# Altium integrated library TI Power Management Battery Management.IntLib: 949 symbols (part 35 of 62)
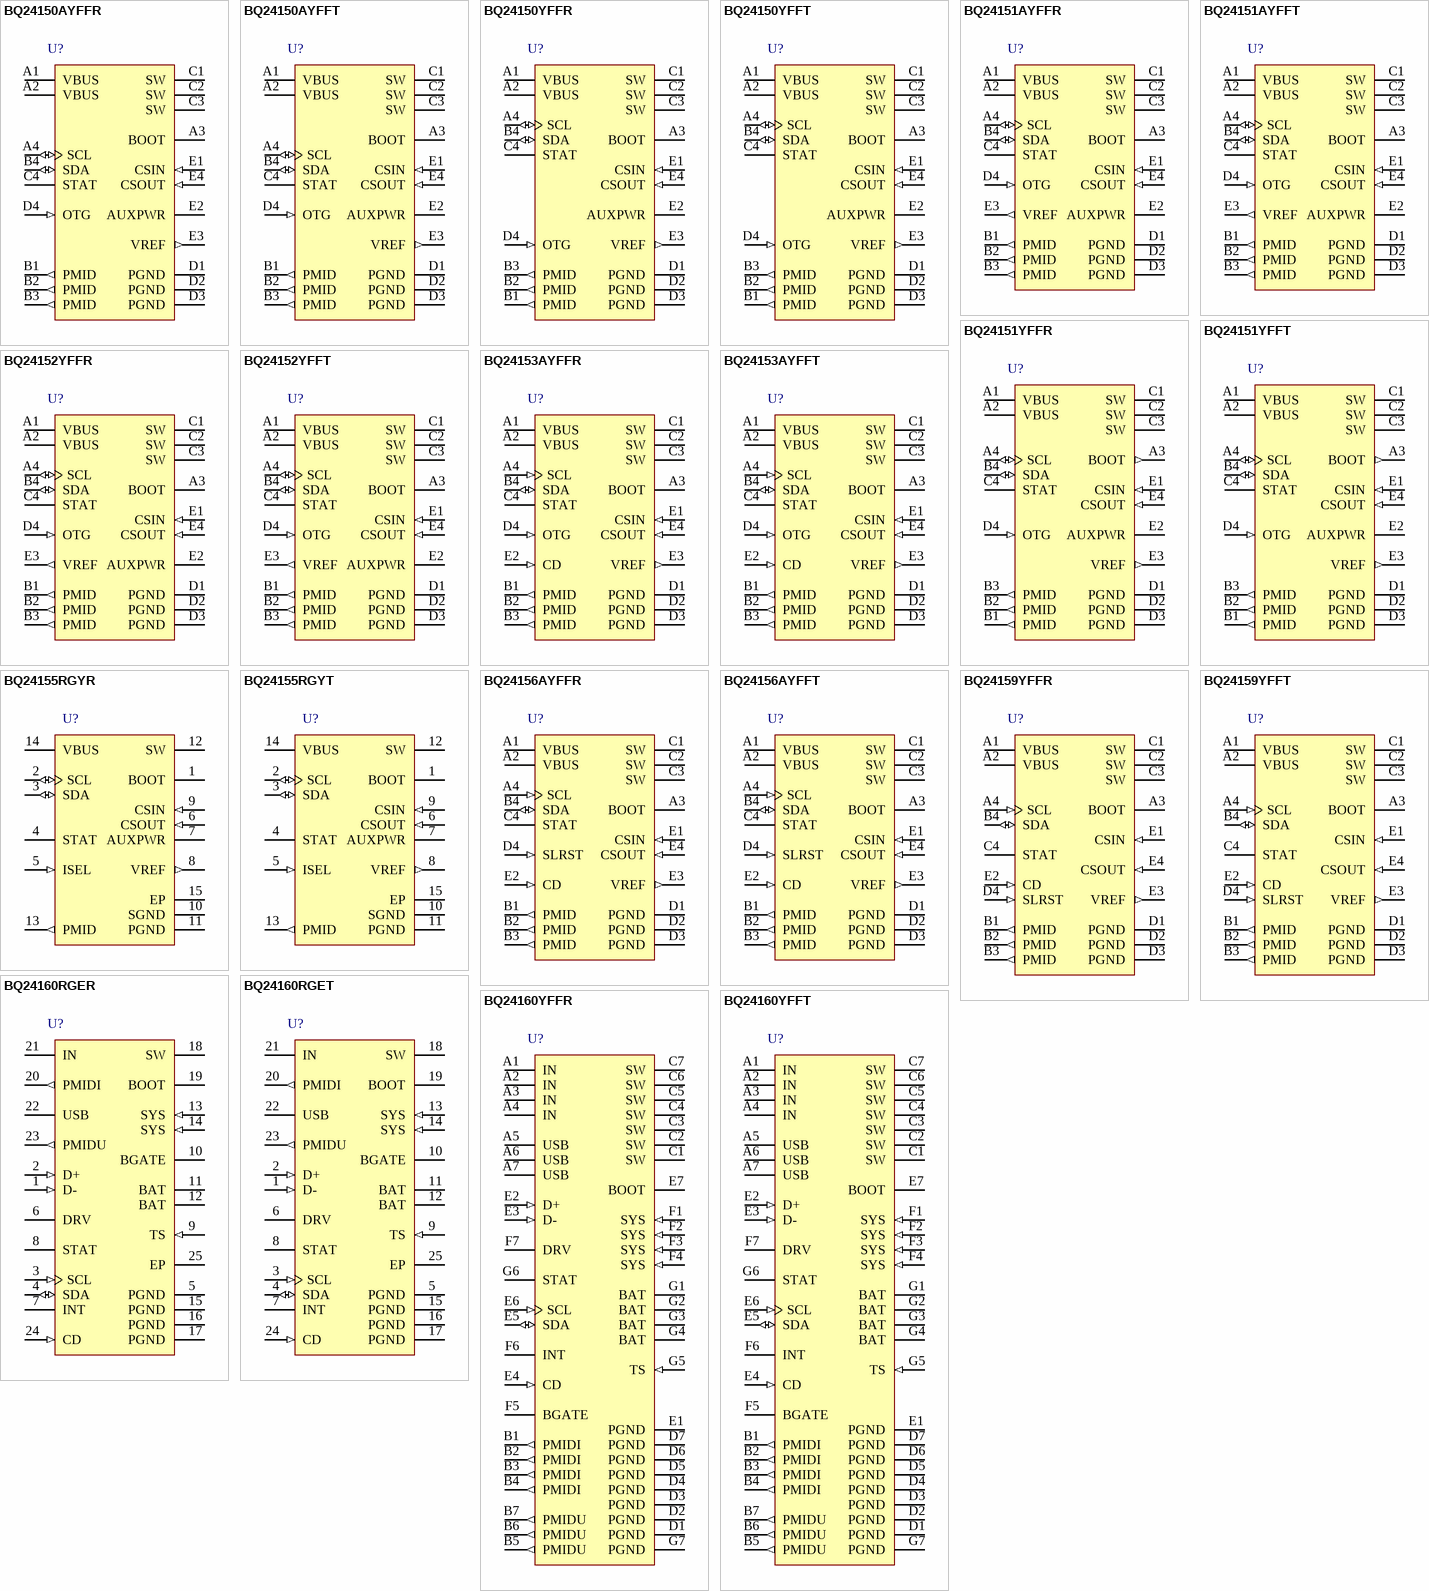
[diagram p68: symbols BQ24150AYFFR to BQ24160YFFT]

## BQ24155RGYT
designator U?
Fully Integrated Switch-Mode One-Cell Li-Ion Charger with Full USB Compliance, 4 V, -40 to 85 degC, 14-pin VQFN (RGY), Green (RoHS & no Sb/Br); PartNumber: BQ24155RGYT; Manufacturer: Texas Instruments; Lead Acid: N; SubFamily: Battery Charge Management; Vin(Min)(V): 4; DatasheetVersion: SLUS942; PackageVersion: revI, Jun-2011; PackageReference: RGY14-2050X2050TP; PackageDescription: 14-Leads Plastic Quad Flatpack No-Lead, 3.5 x 3.5 x 0.9 mm Body, 0.5 mm Pitch; Supplier 1: Digi-Key; Supplier Part Number 1: 296-27228-2-ND; Supplier 2: Digi-Key; Supplier Part Number 2: 296-27228-1-ND; Supplier 3: Digi-Key; Supplier Part Number 3: 296-27228-6-ND; Supplier 4: Farnell; Supplier Part Number 4: 1815716RL; Supplier 5: Farnell; Supplier Part Number 5: 1815716; Supplier 6: Newark; Supplier Part Number 6: 69R4545; Supplier 7: Mouser; Supplier Part Number 7: 595-BQ24155RGYT; Eco-Plan: Green (RoHS & no Sb/Br); Li-Ion: N; Li-Polymer: N; NiCd: N; NiMH: N; Over Voltage Protection: N; Mounting Technology: Surface Mount; Code_JEDEC: MO-241-BA; ComponentLink1Description: Datasheet; ComponentLink1URL: http://www.ti.com/general/docs/lit/getliterature.tsp?genericPartNumber=BQ24155&fileType=pdf
footprint RGY14-2050X2050TP (QFN, 14-Leads, Body 3.5x3.5mm, Pitch 0.5mm, Thermal Pad 2.05x2.05mm, TI Recommended)
pins: 1 BOOT (power) "Bootstrap capacitor connection for the high-side FET gate driver. Connect a 10-nF ceramic capacitor (voltage rating above 10 V) from BOOT pin to SW pin.", 2 SCL (io) "I2C interface clock. Open drain output, connect a 10-kohm pullup resistor to 1.8V rail", 3 SDA (io) "I2C interface data. Open drain output, connect a 10-kohm pullup resistor to 1.8V rail", 4 STAT (hiz) "Charge status pin. Pull low when charge in progress. Open drain for other conditions. During faults, a 128u S pulse is sent out. STAT pin can be disabled by the EN_STAT bit in control register. STAT can be used to drive a (See Datasheet)", 5 ISEL (in) "Input current limiting selection pin. In 32 minutes mode, the ISEL pin is default to be used as the input current limiting selection pin. When ISEL = High, Iin - limit = 500 mA and when ISEL = Low, Iin - limit = 100 mA, see (See Datasheet)", 6 CSOUT (in) "Battery voltage and current sense input. Bypass it with a ceramic capacitor (minimum 0.1 uF) to PGND if there are long inductive leads to battery.", 7 AUXPWR (power) "Auxiliary power supply, connected to the battery pack to provide power in high-impedance mode. Bypass it with a 1-uF ceramic capacitor from this pin to PGND.", 8 VREF (out) "Internal bias regulator voltage. Connect a 1-uF ceramic capacitor from this output to PGND. External load on VREF is not allowed.", 9 CSIN (in) "Charge current-sense input. Battery current is sensed across an external sense resistor. A 0.1-uF ceramic capacitor to PGND is required", 10 SGND (power) "Signal ground", 11 PGND (power) "Power ground", 12 SW (power) "Internal switch to output inductor connection", 13 PMID (out) "Connection point between reverse blocking FET and high-side switching FET. Bypass it with a minimum of 3.3-uF capacitor from PMID to PGND.", 14 VBUS (power) "Charger input voltage. Bypass it with a 1-uF ceramic capacitor from VBUS to PGND", 15 EP (power) "There is an internal electrical connection between the exposed thermal pad and the PGND pin of the device. The thermal pad must be connected to the same potential as the PGND pin on the printed Thermal pad pad - circuit (See Datasheet)"

## BQ24156AYFFR
designator U?
Fully Integrated Switch Mode One-Cell Li-Ion Charger with Full USB Compliance, 4 V, -40 to 85 degC, 20-pin DSBGA (YFF), Green (RoHS & no Sb/Br); PartNumber: BQ24156AYFFR; Manufacturer: Texas Instruments; Lead Acid: N; SubFamily: Battery Charge Management; Vin(Min)(V): 4; DatasheetVersion: SLUSAB0A; PackageVersion: revAF, Mar-2012; PackageReference: YFF20-2140X2000DE; PackageDescription: 20-Ball Die-Size Ball Grid Array, 2.14 x 2 mm Body, 0.4 mm Pitch, Pb-Free; Supplier 1: Digi-Key; Supplier Part Number 1: 296-28035-2-ND; Supplier 2: Digi-Key; Supplier Part Number 2: 296-28035-1-ND; Supplier 3: Digi-Key; Supplier Part Number 3: 296-28035-6-ND; Supplier 4: Mouser; Supplier Part Number 4: 595-BQ24156AYFFR; Eco-Plan: Green (RoHS & no Sb/Br); Li-Ion: N; Li-Polymer: N; NiCd: N; NiMH: N; Over Voltage Protection: N; Mounting Technology: Surface Mount; ComponentLink1Description: Datasheet; ComponentLink1URL: http://www.ti.com/general/docs/lit/getliterature.tsp?genericPartNumber=BQ24156A&fileType=pdf
footprint YFF20-2140X2000DE (BGA, 20-Leads, Body 2.14x2mm, Pitch 0.4mm, Solder Mask Defined Pads)
pins: A1 VBUS (power) "Charger input voltage. Bypass it with a 1-uF ceramic capacitor from VBUS to PGND. It also provides power to the load during boost mode (bq24153A/8 only) .", A2 VBUS (power) "Charger input voltage. Bypass it with a 1-uF ceramic capacitor from VBUS to PGND. It also provides power to the load during boost mode (bq24153A/8 only) .", A3 BOOT (power) "Bootstrap capacitor connection for the high-side FET gate driver. Connect a 10-nF ceramic capacitor (voltage rating >= 10 V) from BOOT pin to SW pin.", A4 SCL (in) "I2C interface clock. Connect a 10-kohm pullup resistor to 1.8V rail (VAUX= VCC_HOST)", B1 PMID (out) "Connection point between reverse blocking FET and high-side switching FET. Bypass it with a minimum of 3.3-uF capacitor from PMID to PGND.", B2 PMID (out) "Connection point between reverse blocking FET and high-side switching FET. Bypass it with a minimum of 3.3-uF capacitor from PMID to PGND.", B3 PMID (out) "Connection point between reverse blocking FET and high-side switching FET. Bypass it with a minimum of 3.3-uF capacitor from PMID to PGND.", B4 SDA (io) "I2C interface data. Connect a 10-kohm pullup resistor to 1.8V rail (VAUX= VCC_HOST)", C1 SW (power) "Internal switch to output inductor connection.", C2 SW (power) "Internal switch to output inductor connection.", C3 SW (power) "Internal switch to output inductor connection.", C4 STAT (hiz) "Charge status pin. Pull low when charge in progress. Open drain for other conditions. During faults, a 128-us pulse is sent out. STAT pin can be disabled by the EN_STAT bit in control register. STAT can be used to drive a (See Datasheet)", D1 PGND (power) "Power ground", D2 PGND (power) "Power ground", D3 PGND (power) "Power ground", D4 SLRST (in) "Safety limit register reset control. When SLRST=0, bq24156A/9 resets all the safety limits (06H) to default values, regardless of the write actions to safety limits registers (06H). When SLRST=1, bq24156A/9 can program the (See Datasheet)", E1 CSIN (in) "Charge current-sense input. Battery current is sensed across an external sense resistor. A 0.1-uF ceramic capacitor to PGND is required.", E2 CD (in) "Charge disable control pin. CD=0, charge is enabled. CD=1, charge is disabled and VBUS pin is high impedance to GND. In 15min mode, Setting CD=1 resets the 15min timer; while in 32s mode, Setting CD=1 will NOT reset the (See Datasheet)", E3 VREF (out) "Internal bias regulator voltage. Connect a 1uF ceramic capacitor from this output to PGND. External load on VREF is not recommended.", E4 CSOUT (in) "Battery voltage and current sense input. Bypass it with a ceramic capacitor (minimum 0.1 uF) to PGND if there are long inductive leads to battery."

## BQ24156AYFFT
designator U?
Fully Integrated Switch Mode One-Cell Li-Ion Charger with Full USB Compliance, 4 V, -40 to 85 degC, 20-pin DSBGA (YFF), Green (RoHS & no Sb/Br); PartNumber: BQ24156AYFFT; Manufacturer: Texas Instruments; Lead Acid: N; SubFamily: Battery Charge Management; Vin(Min)(V): 4; DatasheetVersion: SLUSAB0A; PackageVersion: revAF, Mar-2012; PackageReference: YFF20-2140X2000DE; PackageDescription: 20-Ball Die-Size Ball Grid Array, 2.14 x 2 mm Body, 0.4 mm Pitch, Pb-Free; Supplier 1: Digi-Key; Supplier Part Number 1: BQ24156AYFFT-ND; Supplier 2: Newark; Supplier Part Number 2: 57T9697; Supplier 3: Mouser; Supplier Part Number 3: 595-BQ24156AYFFT; Eco-Plan: Green (RoHS & no Sb/Br); Li-Ion: N; Li-Polymer: N; NiCd: N; NiMH: N; Over Voltage Protection: N; Mounting Technology: Surface Mount; ComponentLink1Description: Datasheet; ComponentLink1URL: http://www.ti.com/general/docs/lit/getliterature.tsp?genericPartNumber=BQ24156A&fileType=pdf
footprint YFF20-2140X2000DE (BGA, 20-Leads, Body 2.14x2mm, Pitch 0.4mm, Solder Mask Defined Pads)
pins: A1 VBUS (power) "Charger input voltage. Bypass it with a 1-uF ceramic capacitor from VBUS to PGND. It also provides power to the load during boost mode (bq24153A/8 only) .", A2 VBUS (power) "Charger input voltage. Bypass it with a 1-uF ceramic capacitor from VBUS to PGND. It also provides power to the load during boost mode (bq24153A/8 only) .", A3 BOOT (power) "Bootstrap capacitor connection for the high-side FET gate driver. Connect a 10-nF ceramic capacitor (voltage rating >= 10 V) from BOOT pin to SW pin.", A4 SCL (in) "I2C interface clock. Connect a 10-kohm pullup resistor to 1.8V rail (VAUX= VCC_HOST)", B1 PMID (out) "Connection point between reverse blocking FET and high-side switching FET. Bypass it with a minimum of 3.3-uF capacitor from PMID to PGND.", B2 PMID (out) "Connection point between reverse blocking FET and high-side switching FET. Bypass it with a minimum of 3.3-uF capacitor from PMID to PGND.", B3 PMID (out) "Connection point between reverse blocking FET and high-side switching FET. Bypass it with a minimum of 3.3-uF capacitor from PMID to PGND.", B4 SDA (io) "I2C interface data. Connect a 10-kohm pullup resistor to 1.8V rail (VAUX= VCC_HOST)", C1 SW (power) "Internal switch to output inductor connection.", C2 SW (power) "Internal switch to output inductor connection.", C3 SW (power) "Internal switch to output inductor connection.", C4 STAT (hiz) "Charge status pin. Pull low when charge in progress. Open drain for other conditions. During faults, a 128-us pulse is sent out. STAT pin can be disabled by the EN_STAT bit in control register. STAT can be used to drive a (See Datasheet)", D1 PGND (power) "Power ground", D2 PGND (power) "Power ground", D3 PGND (power) "Power ground", D4 SLRST (in) "Safety limit register reset control. When SLRST=0, bq24156A/9 resets all the safety limits (06H) to default values, regardless of the write actions to safety limits registers (06H). When SLRST=1, bq24156A/9 can program the (See Datasheet)", E1 CSIN (in) "Charge current-sense input. Battery current is sensed across an external sense resistor. A 0.1-uF ceramic capacitor to PGND is required.", E2 CD (in) "Charge disable control pin. CD=0, charge is enabled. CD=1, charge is disabled and VBUS pin is high impedance to GND. In 15min mode, Setting CD=1 resets the 15min timer; while in 32s mode, Setting CD=1 will NOT reset the (See Datasheet)", E3 VREF (out) "Internal bias regulator voltage. Connect a 1uF ceramic capacitor from this output to PGND. External load on VREF is not recommended.", E4 CSOUT (in) "Battery voltage and current sense input. Bypass it with a ceramic capacitor (minimum 0.1 uF) to PGND if there are long inductive leads to battery."

## BQ24159YFFR
designator U?
Fully Integrated Switch Mode One Cell Li-Ion Charger with Full USB-Compliance, 4 V, -40 to 85 degC, 20-pin DSBGA (YFF), Green (RoHS & no Sb/Br); PartNumber: BQ24159YFFR; Manufacturer: Texas Instruments; Lead Acid: N; Li-Ion: Y; SubFamily: Battery Charge Management; Vin(Min)(V): 4; DatasheetVersion: SLUSAB0A; PackageVersion: revAF, Mar-2012; PackageReference: YFF20-2140X2000DE; PackageDescription: 20-Ball Die-Size Ball Grid Array, 2.14 x 2 mm Body, 0.4 mm Pitch, Pb-Free; Supplier 1: Digi-Key; Supplier Part Number 1: BQ24159YFFR-ND; Supplier 2: Newark; Supplier Part Number 2: 87T7316; Supplier 3: Mouser; Supplier Part Number 3: 595-BQ24159YFFR; Eco-Plan: Green (RoHS & no Sb/Br); Li-Polymer: Y; NiCd: N; NiMH: N; Over Voltage Protection: N; Mounting Technology: Surface Mount; ComponentLink1Description: Datasheet; ComponentLink1URL: http://www.ti.com/general/docs/lit/getliterature.tsp?genericPartNumber=BQ24159&fileType=pdf
footprint YFF20-2140X2000DE (BGA, 20-Leads, Body 2.14x2mm, Pitch 0.4mm, Solder Mask Defined Pads)
pins: A1 VBUS (power) "Charger input voltage. Bypass it with a 1-uF ceramic capacitor from VBUS to PGND. It also provides power to the load during boost mode (bq24153A/8 only) .", A2 VBUS (power) "Charger input voltage. Bypass it with a 1-uF ceramic capacitor from VBUS to PGND. It also provides power to the load during boost mode (bq24153A/8 only) .", A3 BOOT (power) "Bootstrap capacitor connection for the high-side FET gate driver. Connect a 10-nF ceramic capacitor (voltage rating >= 10 V) from BOOT pin to SW pin.", A4 SCL (in) "I2C interface clock. Connect a 10-kO pullup resistor to 1.8V rail (VAUX= VCC_HOST)", B1 PMID (out) "Connection point between reverse blocking FET and high-side switching FET. Bypass it with a minimum of 3.3-uF capacitor from PMID to PGND.", B2 PMID (out) "Connection point between reverse blocking FET and high-side switching FET. Bypass it with a minimum of 3.3-uF capacitor from PMID to PGND.", B3 PMID (out) "Connection point between reverse blocking FET and high-side switching FET. Bypass it with a minimum of 3.3-uF capacitor from PMID to PGND.", B4 SDA (io) "I2C interface data. Connect a 10-kO pullup resistor to 1.8V rail (VAUX= VCC_HOST)", C1 SW (power) "Internal switch to output inductor connection.", C2 SW (power) "Internal switch to output inductor connection.", C3 SW (power) "Internal switch to output inductor connection.", C4 STAT (hiz) "Charge status pin. Pull low when charge in progress. Open drain for other conditions. During faults, a 128-us pulse is sent out. STAT pin can be disabled by the EN_STAT bit in control register. STAT can be used to drive a (See Datasheet)", D1 PGND (power) "Power ground", D2 PGND (power) "Power ground", D3 PGND (power) "Power ground", D4 SLRST (in) "Safety limit register reset control. When SLRST=0, bq24156A/9 resets all the safety limits (06H) to default values, regardless of the write actions to safety limits registers (06H). When SLRST=1, bq24156A/9 can program the (See Datasheet)", E1 CSIN (in) "Charge current-sense input. Battery current is sensed across an external sense resistor. A 0.1-uF ceramic capacitor to PGND is required.", E2 CD (in) "Charge disable control pin. CD=0, charge is enabled. CD=1, charge is disabled and VBUS pin is high impedance to GND. In 15min mode, Setting CD=1 resets the 15min timer; while in 32s mode, Setting CD=1 will NOT reset the (See Datasheet)", E3 VREF (out) "Internal bias regulator voltage. Connect a 1uF ceramic capacitor from this output to PGND. External load on VREF is not recommended.", E4 CSOUT (in) "Battery voltage and current sense input. Bypass it with a ceramic capacitor (minimum 0.1 uF) to PGND if there are long inductive leads to battery."

## BQ24159YFFT
designator U?
Fully Integrated Switch Mode One Cell Li-Ion Charger with Full USB-Compliance, 4 V, -40 to 85 degC, 20-pin DSBGA (YFF), Green (RoHS & no Sb/Br); PartNumber: BQ24159YFFT; Manufacturer: Texas Instruments; Lead Acid: N; Li-Ion: Y; SubFamily: Battery Charge Management; Vin(Min)(V): 4; DatasheetVersion: SLUSAB0A; PackageVersion: revAF, Mar-2012; PackageReference: YFF20-2140X2000DE; PackageDescription: 20-Ball Die-Size Ball Grid Array, 2.14 x 2 mm Body, 0.4 mm Pitch, Pb-Free; Supplier 1: Digi-Key; Supplier Part Number 1: BQ24159YFFT-ND; Supplier 2: Newark; Supplier Part Number 2: 87T7317; Supplier 3: Mouser; Supplier Part Number 3: 595-BQ24159YFFT; Eco-Plan: Green (RoHS & no Sb/Br); Li-Polymer: Y; NiCd: N; NiMH: N; Over Voltage Protection: Y; Mounting Technology: Surface Mount; ComponentLink1Description: Datasheet; ComponentLink1URL: http://www.ti.com/general/docs/lit/getliterature.tsp?genericPartNumber=BQ24159&fileType=pdf
footprint YFF20-2140X2000DE (BGA, 20-Leads, Body 2.14x2mm, Pitch 0.4mm, Solder Mask Defined Pads)
pins: A1 VBUS (power) "Charger input voltage. Bypass it with a 1-uF ceramic capacitor from VBUS to PGND. It also provides power to the load during boost mode (bq24153A/8 only) .", A2 VBUS (power) "Charger input voltage. Bypass it with a 1-uF ceramic capacitor from VBUS to PGND. It also provides power to the load during boost mode (bq24153A/8 only) .", A3 BOOT (power) "Bootstrap capacitor connection for the high-side FET gate driver. Connect a 10-nF ceramic capacitor (voltage rating >= 10 V) from BOOT pin to SW pin.", A4 SCL (in) "I2C interface clock. Connect a 10-kO pullup resistor to 1.8V rail (VAUX= VCC_HOST)", B1 PMID (out) "Connection point between reverse blocking FET and high-side switching FET. Bypass it with a minimum of 3.3-uF capacitor from PMID to PGND.", B2 PMID (out) "Connection point between reverse blocking FET and high-side switching FET. Bypass it with a minimum of 3.3-uF capacitor from PMID to PGND.", B3 PMID (out) "Connection point between reverse blocking FET and high-side switching FET. Bypass it with a minimum of 3.3-uF capacitor from PMID to PGND.", B4 SDA (io) "I2C interface data. Connect a 10-kO pullup resistor to 1.8V rail (VAUX= VCC_HOST)", C1 SW (power) "Internal switch to output inductor connection.", C2 SW (power) "Internal switch to output inductor connection.", C3 SW (power) "Internal switch to output inductor connection.", C4 STAT (hiz) "Charge status pin. Pull low when charge in progress. Open drain for other conditions. During faults, a 128-us pulse is sent out. STAT pin can be disabled by the EN_STAT bit in control register. STAT can be used to drive a (See Datasheet)", D1 PGND (power) "Power ground", D2 PGND (power) "Power ground", D3 PGND (power) "Power ground", D4 SLRST (in) "Safety limit register reset control. When SLRST=0, bq24156A/9 resets all the safety limits (06H) to default values, regardless of the write actions to safety limits registers (06H). When SLRST=1, bq24156A/9 can program the (See Datasheet)", E1 CSIN (in) "Charge current-sense input. Battery current is sensed across an external sense resistor. A 0.1-uF ceramic capacitor to PGND is required.", E2 CD (in) "Charge disable control pin. CD=0, charge is enabled. CD=1, charge is disabled and VBUS pin is high impedance to GND. In 15min mode, Setting CD=1 resets the 15min timer; while in 32s mode, Setting CD=1 will NOT reset the (See Datasheet)", E3 VREF (out) "Internal bias regulator voltage. Connect a 1uF ceramic capacitor from this output to PGND. External load on VREF is not recommended.", E4 CSOUT (in) "Battery voltage and current sense input. Bypass it with a ceramic capacitor (minimum 0.1 uF) to PGND if there are long inductive leads to battery."

## BQ24160RGER
designator U?
2.5 A, Dual-Input, Single Cell Switchmode Li-Ion Battery Charger with Power Path, 4 V, -40 to 85 degC, 24-pin VQFN (RGE), Green (RoHS & no Sb/Br); PartNumber: BQ24160RGER; Manufacturer: Texas Instruments; Lead Acid: N; Li-Ion: Y; SubFamily: Battery Charge Management; Vin(Min)(V): 4; DatasheetVersion: SLUSAO0A; PackageVersion: revG, Jul-2011; PackageReference: RGE24-2700X2700TP; PackageDescription: 24-Pin Plastic Quad Flatpack No-Lead, 4 x 4 mm Body, 0.5 mm Pitch; Supplier 1: Digi-Key; Supplier Part Number 1: BQ24160RGER-ND; Supplier 2: Newark; Supplier Part Number 2: 92T1997; Supplier 3: Mouser; Supplier Part Number 3: 595-BQ24160RGER; Eco-Plan: Green (RoHS & no Sb/Br); Li-Polymer: Y; NiCd: N; NiMH: N; Over Voltage Protection: N; Mounting Technology: Surface Mount; Code_JEDEC: MO-220; ComponentLink1Description: Datasheet; ComponentLink1URL: http://www.ti.com/general/docs/lit/getliterature.tsp?genericPartNumber=BQ24160&fileType=pdf
footprint RGE24-2700X2700TP (QFN, 24-Leads, Body 4x4mm, Pitch 0.5mm, Thermal Pad 2.7x2.7mm, TI Recommended)
pins: 1 D- (in) "D+ and D- Connections for USB Input Adapter Detection - When a charge cycle is initiated by the USB input, and a short is detected between D+ and D-, the USB input current limit is set to 1.5A. If a short is not detected, (See Datasheet)", 2 D+ (in) "D+ and D- Connections for USB Input Adapter Detection - When a charge cycle is initiated by the USB input, and a short is detected between D+ and D-, the USB input current limit is set to 1.5A. If a short is not detected, (See Datasheet)", 3 SCL (in) "I2C Interface Clock - Connect SCL to the logic rail through a 10k ohm resistor", 4 SDA (io) "I2C Interface Data - Connect SDA to the logic rail through a 10k ohm  resistor.", 5 PGND (power) "Ground terminal - Connect to the thermal pad (for QFN only) and the ground plane of the circuit.", 6 DRV (power) "Gate Drive Supply - DRV is the bias supply for the gate drive of the internal MOSFETs. Bypass DRV to PGND with a 1uF ceramic capacitor. DRV may be used to drive external loads up to 10mA. DRV is active whenever the input is (See Datasheet)", 7 INT (hiz) "Status Output - INT is an open-drain output that signals charging status and fault interrupts. INT pulls low during charging. INT is high impedance when charging is complete or the charger is disabled. When a fault occurs, a (See Datasheet)", 8 STAT (hiz) "Status Output - STAT is an open-drain output that signals charging status and fault interrupts. STAT pulls low during charging. STAT is high impedance when charging is complete or the charger is disabled. When a fault (See Datasheet)", 9 TS (in) "Battery Pack NTC Monitor - Connect TS to the center tap of a resistor divider from DRV to GND. The NTC is connected from TS to GND. The TS function provides 4 thresholds for JEITA compatibility (160/163/168 only). TS faults (See Datasheet)", 10 BGATE "External Discharge MOSFET Gate Connection - BGATE drives an external PChannel MOSFET to provide a very low-resistance discharge path. Connect BGATE to the gate of the external MOSFET. BGATE is low during high impedance mode (See Datasheet)", 11 BAT (power) "Battery Connection - Connect to the positive terminal of the battery. Additionally, bypass BAT to GND with at least a 1uF capacitor", 12 BAT (power) "Battery Connection - Connect to the positive terminal of the battery. Additionally, bypass BAT to GND with at least a 1uF capacitor", 13 SYS (in) "System Voltage Sense and Charger FET Connection - Connect SYS to the system output at the output bulk capacitors. Bypass SYS locally with at least 10uF. A 47uF bypass capacitor is recommended for optimal transient response.", 14 SYS (in) "System Voltage Sense and Charger FET Connection - Connect SYS to the system output at the output bulk capacitors. Bypass SYS locally with at least 10uF. A 47uF bypass capacitor is recommended for optimal transient response.", 15 PGND (power) "Ground terminal - Connect to the thermal pad (for QFN only) and the ground plane of the circuit.", 16 PGND (power) "Ground terminal - Connect to the thermal pad (for QFN only) and the ground plane of the circuit.", 17 PGND (power) "Ground terminal - Connect to the thermal pad (for QFN only) and the ground plane of the circuit.", 18 SW (power) "Inductor Connection - Connect to the switched side of the external inductor", 19 BOOT (power) "High Side MOSFET Gate Driver Supply - Connect a 0.01uF ceramic capacitor (voltage rating > 10V) from BOOT to SW to supply the gate drive for the high side MOSFETs", 20 PMIDI (out) "Reverse Blocking MOSFET and High Side MOSFET Connection Point for High Power Input - Bypass PMIDI to GND with at least a 4.7uF ceramic capacitor. Use caution when connecting an external load to PMIDI. The PMIDI output is not (See Datasheet)", 21 IN (power) "Input power supply - IN is connected to the external DC supply (AC adapter or alternate power source). Bypass IN to PGND with at least a 1uF ceramic capacitor", 22 USB (power) "USB Input Power Supply - USB is connected to the external DC supply (AC adapter or USB port). Bypass USB to PGND with at least a 1uF ceramic capacitor", 23 PMIDU (out) "Reverse Blocking MOSFET and High Side MOSFET Connection Point for USB Input - Bypass PMIDU to GND with at least a 4.7uF ceramic capacitor. Use caution when connecting an external load to PMIDU. The PMIDU output is not (See Datasheet)", 24 CD (in) "IC Hardware Disable Input - Drive CD high to place the bq2416x in high-z mode. Drive CD low for normal operation. Do not leave CD unconnected.", 25 EP (power) "There is an internal electrical connection between the exposed thermal pad and the PGND pin of the device. The thermal pad must be connected to the same potential as the PGND pin on the printed circuit board. Do not use the (See Datasheet)"

## BQ24160RGET
designator U?
2.5 A, Dual-Input, Single Cell Switchmode Li-Ion Battery Charger with Power Path, 4 V, -40 to 85 degC, 24-pin VQFN (RGE), Green (RoHS & no Sb/Br); PartNumber: BQ24160RGET; Manufacturer: Texas Instruments; Lead Acid: N; Li-Ion: Y; SubFamily: Battery Charge Management; Vin(Min)(V): 4.0; DatasheetVersion: SLUSAO0A; PackageVersion: revG, Jul-2011; PackageReference: RGE24-2700X2700TP; PackageDescription: 24-Pin Plastic Quad Flatpack No-Lead, 4 x 4 mm Body, 0.5 mm Pitch; Supplier 1: Digi-Key; Supplier Part Number 1: 296-30603-2-ND; Supplier 2: Digi-Key; Supplier Part Number 2: 296-30603-1-ND; Supplier 3: Digi-Key; Supplier Part Number 3: 296-30603-6-ND; Supplier 4: Newark; Supplier Part Number 4: 06W2147; Supplier 5: Mouser; Supplier Part Number 5: 595-BQ24160RGET; Eco-Plan: Green (RoHS & no Sb/Br); Li-Polymer: Y; NiCd: N; NiMH: N; Over Voltage Protection: N; Mounting Technology: Surface Mount; Code_JEDEC: MO-220; ComponentLink1Description: Datasheet; ComponentLink1URL: http://www.ti.com/general/docs/lit/getliterature.tsp?genericPartNumber=BQ24160&fileType=pdf
footprint RGE24-2700X2700TP (QFN, 24-Leads, Body 4x4mm, Pitch 0.5mm, Thermal Pad 2.7x2.7mm, TI Recommended)
pins: 1 D- (in) "D+ and D- Connections for USB Input Adapter Detection - When a charge cycle is initiated by the USB input, and a short is detected between D+ and D-, the USB input current limit is set to 1.5A. If a short is not detected, (See Datasheet)", 2 D+ (in) "D+ and D- Connections for USB Input Adapter Detection - When a charge cycle is initiated by the USB input, and a short is detected between D+ and D-, the USB input current limit is set to 1.5A. If a short is not detected, (See Datasheet)", 3 SCL (in) "I2C Interface Clock - Connect SCL to the logic rail through a 10k ohm resistor", 4 SDA (io) "I2C Interface Data - Connect SDA to the logic rail through a 10k ohm  resistor.", 5 PGND (power) "Ground terminal - Connect to the thermal pad (for QFN only) and the ground plane of the circuit.", 6 DRV (power) "Gate Drive Supply - DRV is the bias supply for the gate drive of the internal MOSFETs. Bypass DRV to PGND with a 1uF ceramic capacitor. DRV may be used to drive external loads up to 10mA. DRV is active whenever the input is (See Datasheet)", 7 INT (hiz) "Status Output - INT is an open-drain output that signals charging status and fault interrupts. INT pulls low during charging. INT is high impedance when charging is complete or the charger is disabled. When a fault occurs, a (See Datasheet)", 8 STAT (hiz) "Status Output - STAT is an open-drain output that signals charging status and fault interrupts. STAT pulls low during charging. STAT is high impedance when charging is complete or the charger is disabled. When a fault (See Datasheet)", 9 TS (in) "Battery Pack NTC Monitor - Connect TS to the center tap of a resistor divider from DRV to GND. The NTC is connected from TS to GND. The TS function provides 4 thresholds for JEITA compatibility (160/163/168 only). TS faults (See Datasheet)", 10 BGATE "External Discharge MOSFET Gate Connection - BGATE drives an external PChannel MOSFET to provide a very low-resistance discharge path. Connect BGATE to the gate of the external MOSFET. BGATE is low during high impedance mode (See Datasheet)", 11 BAT (power) "Battery Connection - Connect to the positive terminal of the battery. Additionally, bypass BAT to GND with at least a 1uF capacitor", 12 BAT (power) "Battery Connection - Connect to the positive terminal of the battery. Additionally, bypass BAT to GND with at least a 1uF capacitor", 13 SYS (in) "System Voltage Sense and Charger FET Connection - Connect SYS to the system output at the output bulk capacitors. Bypass SYS locally with at least 10uF. A 47uF bypass capacitor is recommended for optimal transient response.", 14 SYS (in) "System Voltage Sense and Charger FET Connection - Connect SYS to the system output at the output bulk capacitors. Bypass SYS locally with at least 10uF. A 47uF bypass capacitor is recommended for optimal transient response.", 15 PGND (power) "Ground terminal - Connect to the thermal pad (for QFN only) and the ground plane of the circuit.", 16 PGND (power) "Ground terminal - Connect to the thermal pad (for QFN only) and the ground plane of the circuit.", 17 PGND (power) "Ground terminal - Connect to the thermal pad (for QFN only) and the ground plane of the circuit.", 18 SW (power) "Inductor Connection - Connect to the switched side of the external inductor", 19 BOOT (power) "High Side MOSFET Gate Driver Supply - Connect a 0.01uF ceramic capacitor (voltage rating > 10V) from BOOT to SW to supply the gate drive for the high side MOSFETs", 20 PMIDI (out) "Reverse Blocking MOSFET and High Side MOSFET Connection Point for High Power Input - Bypass PMIDI to GND with at least a 4.7uF ceramic capacitor. Use caution when connecting an external load to PMIDI. The PMIDI output is not (See Datasheet)", 21 IN (power) "Input power supply - IN is connected to the external DC supply (AC adapter or alternate power source). Bypass IN to PGND with at least a 1uF ceramic capacitor", 22 USB (power) "USB Input Power Supply - USB is connected to the external DC supply (AC adapter or USB port). Bypass USB to PGND with at least a 1uF ceramic capacitor", 23 PMIDU (out) "Reverse Blocking MOSFET and High Side MOSFET Connection Point for USB Input - Bypass PMIDU to GND with at least a 4.7uF ceramic capacitor. Use caution when connecting an external load to PMIDU. The PMIDU output is not (See Datasheet)", 24 CD (in) "IC Hardware Disable Input - Drive CD high to place the bq2416x in high-z mode. Drive CD low for normal operation. Do not leave CD unconnected.", 25 EP (power) "There is an internal electrical connection between the exposed thermal pad and the PGND pin of the device. The thermal pad must be connected to the same potential as the PGND pin on the printed circuit board. Do not use the (See Datasheet)"

## BQ24160YFFR
designator U?
2.5 A, Dual-Input, Single Cell Switchmode Li-Ion Battery Charger with Power Path, 4 V, -40 to 85 degC, 49-pin DSBGA (YFF), Green (RoHS & no Sb/Br); PartNumber: BQ24160YFFR; Manufacturer: Texas Instruments; Lead Acid: N; Li-Ion: Y; SubFamily: Battery Charge Management; Vin(Min)(V): 4; DatasheetVersion: SLUSAO0A; PackageVersion: revAG, Jun-2012; PackageReference: YFF49-2741X2741DE; PackageDescription: 49-Ball Die-Size Ball Grid Array 0.4 mm Pitch, Pb-Free; Supplier 1: Digi-Key; Supplier Part Number 1: 296-30089-2-ND; Supplier 2: Digi-Key; Supplier Part Number 2: 296-30089-1-ND; Supplier 3: Digi-Key; Supplier Part Number 3: 296-30089-6-ND; Supplier 4: Newark; Supplier Part Number 4: 76T5255; Supplier 5: Mouser; Supplier Part Number 5: 595-BQ24160YFFR; Eco-Plan: Green (RoHS & no Sb/Br); Li-Polymer: Y; NiCd: N; NiMH: N; Over Voltage Protection: N; Mounting Technology: Surface Mount; ComponentLink1Description: Datasheet; ComponentLink1URL: http://www.ti.com/general/docs/lit/getliterature.tsp?genericPartNumber=BQ24160&fileType=pdf
footprint YFF49-2741X2741DE (BGA, 49-Leads, Body 2.74x2.74mm, Pitch 0.4mm, Solder Mask Defined Pads)
pins: A1 IN (power) "Input power supply - IN is connected to the external DC supply (AC adapter or alternate power source). Bypass IN to PGND with at least a 1uF ceramic capacitor", A2 IN (power) "Input power supply - IN is connected to the external DC supply (AC adapter or alternate power source). Bypass IN to PGND with at least a 1uF ceramic capacitor", A3 IN (power) "Input power supply - IN is connected to the external DC supply (AC adapter or alternate power source). Bypass IN to PGND with at least a 1uF ceramic capacitor", A4 IN (power) "Input power supply - IN is connected to the external DC supply (AC adapter or alternate power source). Bypass IN to PGND with at least a 1uF ceramic capacitor", A5 USB (power) "USB Input Power Supply - USB is connected to the external DC supply (AC adapter or USB port). Bypass USB to PGND with at least a 1uF ceramic capacitor", A6 USB (power) "USB Input Power Supply - USB is connected to the external DC supply (AC adapter or USB port). Bypass USB to PGND with at least a 1uF ceramic capacitor", A7 USB (power) "USB Input Power Supply - USB is connected to the external DC supply (AC adapter or USB port). Bypass USB to PGND with at least a 1uF ceramic capacitor", B1 PMIDI (out) "Reverse Blocking MOSFET and High Side MOSFET Connection Point for High Power Input - Bypass PMIDI to GND with at least a 4.7uF ceramic capacitor. Use caution when connecting an external load to PMIDI. The PMIDI output is not (See Datasheet)", B2 PMIDI (out) "Reverse Blocking MOSFET and High Side MOSFET Connection Point for High Power Input - Bypass PMIDI to GND with at least a 4.7uF ceramic capacitor. Use caution when connecting an external load to PMIDI. The PMIDI output is not (See Datasheet)", B3 PMIDI (out) "Reverse Blocking MOSFET and High Side MOSFET Connection Point for High Power Input - Bypass PMIDI to GND with at least a 4.7uF ceramic capacitor. Use caution when connecting an external load to PMIDI. The PMIDI output is not (See Datasheet)", B4 PMIDI (out) "Reverse Blocking MOSFET and High Side MOSFET Connection Point for High Power Input - Bypass PMIDI to GND with at least a 4.7uF ceramic capacitor. Use caution when connecting an external load to PMIDI. The PMIDI output is not (See Datasheet)", B5 PMIDU (out) "Reverse Blocking MOSFET and High Side MOSFET Connection Point for USB Input - Bypass PMIDU to GND with at least a 4.7uF ceramic capacitor. Use caution when connecting an external load to PMIDU. The PMIDU output is not (See Datasheet)", B6 PMIDU (out) "Reverse Blocking MOSFET and High Side MOSFET Connection Point for USB Input - Bypass PMIDU to GND with at least a 4.7uF ceramic capacitor. Use caution when connecting an external load to PMIDU. The PMIDU output is not (See Datasheet)", B7 PMIDU (out) "Reverse Blocking MOSFET and High Side MOSFET Connection Point for USB Input - Bypass PMIDU to GND with at least a 4.7uF ceramic capacitor. Use caution when connecting an external load to PMIDU. The PMIDU output is not (See Datasheet)", C1 SW (power) "Inductor Connection - Connect to the switched side of the external inductor.", C2 SW (power) "Inductor Connection - Connect to the switched side of the external inductor.", C3 SW (power) "Inductor Connection - Connect to the switched side of the external inductor.", C4 SW (power) "Inductor Connection - Connect to the switched side of the external inductor.", C5 SW (power) "Inductor Connection - Connect to the switched side of the external inductor.", C6 SW (power) "Inductor Connection - Connect to the switched side of the external inductor.", C7 SW (power) "Inductor Connection - Connect to the switched side of the external inductor.", D1 PGND (power) "Ground terminal - Connect to the thermal pad (for QFN only) and the ground plane of the circuit.", D2 PGND (power) "Ground terminal - Connect to the thermal pad (for QFN only) and the ground plane of the circuit.", D3 PGND (power) "Ground terminal - Connect to the thermal pad (for QFN only) and the ground plane of the circuit.", D4 PGND (power) "Ground terminal - Connect to the thermal pad (for QFN only) and the ground plane of the circuit.", D5 PGND (power) "Ground terminal - Connect to the thermal pad (for QFN only) and the ground plane of the circuit.", D6 PGND (power) "Ground terminal - Connect to the thermal pad (for QFN only) and the ground plane of the circuit.", D7 PGND (power) "Ground terminal - Connect to the thermal pad (for QFN only) and the ground plane of the circuit.", E1 PGND (power) "Ground terminal - Connect to the thermal pad (for QFN only) and the ground plane of the circuit.", E2 D+ (in) "D+ and D- Connections for USB Input Adapter Detection - When a charge cycle is initiated by the USB input, and a short is detected between D+ and D-, the USB input current limit is set to 1.5A. If a short is not detected, (See Datasheet)", E3 D- (in) "D+ and D- Connections for USB Input Adapter Detection - When a charge cycle is initiated by the USB input, and a short is detected between D+ and D-, the USB input current limit is set to 1.5A. If a short is not detected, (See Datasheet)", E4 CD (in) "IC Hardware Disable Input - Drive CD high to place the bq2416x in high-z mode. Drive CD low for normal operation. Do not leave CD unconnected.", E5 SDA (io) "I2C Interface Data - Connect SDA to the logic rail through a 10k ohm resistor.", E6 SCL (in) "I2C Interface Clock - Connect SCL to the logic rail through a 10k ohm resistor", E7 BOOT (power) "High Side MOSFET Gate Driver Supply - Connect a 0.01µF ceramic capacitor (voltage rating > 10V) from BOOT to SW to supply the gate drive for the high side MOSFETs", F1 SYS (in) "System Voltage Sense and Charger FET Connection - Connect SYS to the system output at the output bulk capacitors. Bypass SYS locally with at least 10uF. A 47uF bypass capacitor is recommended for optimal transient response.", F2 SYS (in) "System Voltage Sense and Charger FET Connection - Connect SYS to the system output at the output bulk capacitors. Bypass SYS locally with at least 10uF. A 47uF bypass capacitor is recommended for optimal transient response.", F3 SYS (in) "System Voltage Sense and Charger FET Connection - Connect SYS to the system output at the output bulk capacitors. Bypass SYS locally with at least 10uF. A 47uF bypass capacitor is recommended for optimal transient response.", F4 SYS (in) "System Voltage Sense and Charger FET Connection - Connect SYS to the system output at the output bulk capacitors. Bypass SYS locally with at least 10uF. A 47uF bypass capacitor is recommended for optimal transient response.", F5 BGATE "External Discharge MOSFET Gate Connection - BGATE drives an external PChannel MOSFET to provide a very low-resistance discharge path. Connect BGATE to the gate of the external MOSFET. BGATE is low during high impedance mode (See Datasheet)", F6 INT (hiz) "Status Output - INT is an open-drain output that signals charging status and fault interrupts. INT pulls low during charging. INT is high impedance when charging is complete or the charger is disabled. When a fault occurs, a (See Datasheet)", F7 DRV (power) "Gate Drive Supply - DRV is the bias supply for the gate drive of the internal MOSFETs. Bypass DRV to PGND with a 1uF ceramic capacitor. DRV may be used to drive external loads up to 10mA. DRV is active whenever the input is (See Datasheet)", G1 BAT (power) "Battery Connection - Connect to the positive terminal of the battery. Additionally, bypass BAT to GND with at least a 1uF capacitor", G2 BAT (power) "Battery Connection - Connect to the positive terminal of the battery. Additionally, bypass BAT to GND with at least a 1uF capacitor", G3 BAT (power) "Battery Connection - Connect to the positive terminal of the battery. Additionally, bypass BAT to GND with at least a 1uF capacitor", G4 BAT (power) "Battery Connection - Connect to the positive terminal of the battery. Additionally, bypass BAT to GND with at least a 1uF capacitor", G5 TS (in) "Battery Pack NTC Monitor - Connect TS to the center tap of a resistor divider from DRV to GND. The NTC is connected from TS to GND. The TS function provides 4 thresholds for JEITA compatibility (160/163/168 only). TS faults (See Datasheet)", G6 STAT (hiz) "Status Output - STAT is an open-drain output that signals charging status and fault interrupts. STAT pulls low during charging. STAT is high impedance when charging is complete or the charger is disabled. When a fault (See Datasheet)", G7 PGND (power) "Ground terminal - Connect to the thermal pad (for QFN only) and the ground plane of the circuit."